# EAGLE library part 632723130112 (library 632723100011_Eagle_WR-USB_rev19b)
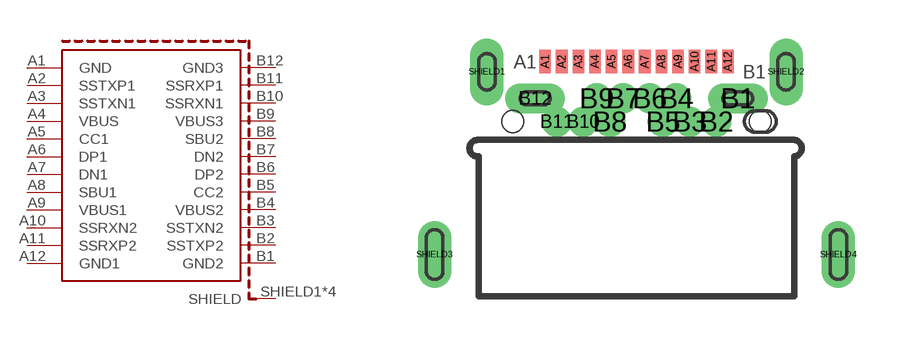
[diagram p185: symbol with the pads of 632723130112; footprint 632723130112]

Designator prefix J

## 632723130112  [632723130112]
A1  GND
A2  SSTXP1
A3  SSTXN1
A4  VBUS
A5  CC1
A6  DP1
A7  DN1
A8  SBU1
A9  VBUS1
A10  SSRXN2
A11  SSRXP2
A12  GND1
B1  GND2
B2  SSTXP2
B3  SSTXN2
B4  VBUS2
B5  CC2
B6  DP2
B7  DN2
B8  SBU2
B9  VBUS3
B10  SSRXN1
B11  SSRXP1
B12  GND3
SHIELD1  SHIELD
SHIELD2  SHIELD
SHIELD3  SHIELD
SHIELD4  SHIELD

## Footprint 632723130112 (pad centres in mm)
smd 0.35 x 0.7: A1 -2.75,1.81; A2 -2.25,1.81; A3 -1.75,1.81; A4 -1.25,1.81; A5 -0.75,1.81; A6 -0.25,1.81; A7 0.25,1.81; A8 0.75,1.81; A9 1.25,1.81; A10 1.75,1.81; A11 2.25,1.81; A12 2.75,1.81
drill 0.4 pad 0.65 long: B1 3.05,0.7; B12 -3.05,0.7
drill 0.4 pad 0.65: B2 2.4,0; B3 1.6,0; B4 1.2,0.7; B5 0.8,0; B6 0.4,0.7; B7 -0.4,0.7; B8 -0.8,0; B9 -1.2,0.7; B10 -1.6,0; B11 -2.4,0
drill 0.5 pad 1 long: SHIELD1 -4.5,1.5; SHIELD2 4.5,1.5; SHIELD3 -6.075,-4; SHIELD4 6.075,-4
hole 0.65 at -3.725,0
hole 0.65 at 3.725,0